# Altium integrated library Analog Devices Power Management Multi-Output Regulators.IntLib: 30 symbols (part 2 of 3)
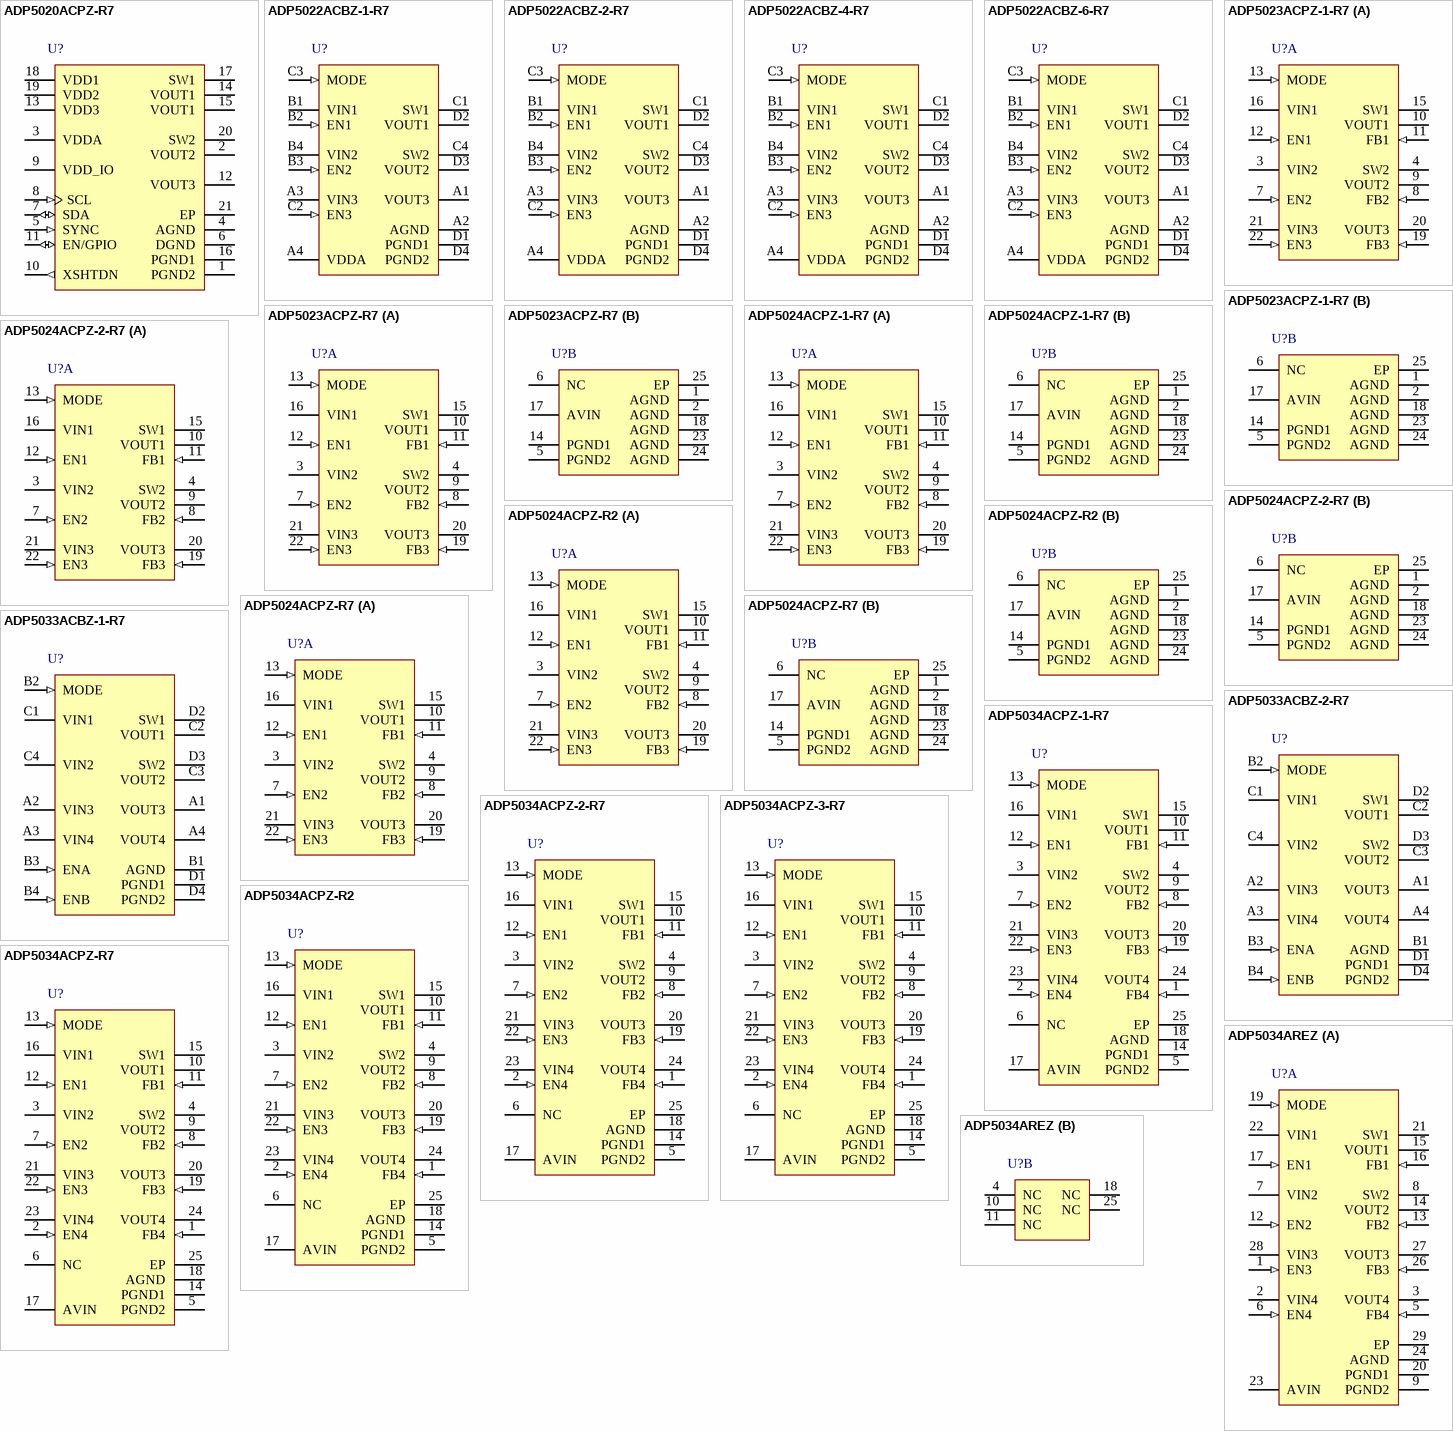
[diagram p2: symbols ADP5020ACPZ-R7 to ADP5034AREZ]

## ADP5034ACPZ-2-R7
designator U?
Dual 3 MHz, 1200 mA Buck Regulator with Two 300 mA LDOs, 2.3 to 5.5 V Vin, Adjustable Vout, Industrial, 24-pin QFN (CP-24-10), Reel; Manufacturer: Analog Devices; PartNumber: ADP5034ACPZ-2-R7; Output Current (mA): 300; Number of Outputs: 4; Vin (max) (V): 5.5; Vin (min) (V): 2.3; DatasheetVersion: Rev. C; PackageVersion: 0; PackageReference: CP-24-10; PackageDescription: 24-Pin Lead Frame Chip Scale Package, Body 4 x 4 mm, Pitch 0.5 mm; Supplier 1: Digi-Key; Supplier Part Number 1: ADP5034ACPZ-2-R7-ND; Supplier 2: Farnell; Supplier Part Number 2: 2081051; Supplier 3: Newark; Supplier Part Number 3: 92T3195; Supplier 4: Newark; Supplier Part Number 4: 76T1767; Supplier 5: Mouser; Supplier Part Number 5: 584-ADP5034ACPZ-2-R7; Packing: Reel; Mounting Technology: Surface Mount; Code_JEDEC: MO-220-WGGD-8; ComponentLink1Description: Manufacturer URL; ComponentLink1URL: http://www.analog.com/en/index.html; ComponentLink2Description: Datasheet; ComponentLink2URL: http://www.analog.com/static/imported-files/data_sheets/ADP5034.pdf; ComponentLink3Description: Package Specification; ComponentLink3URL: http://www.analog.com/static/imported-files/packages/PKG_PDF/LFCSP(CP)/CP_24_10.pdf; ComponentLink4Description: URL Link1; ComponentLink4URL: Product URL:http://www.analog.com/en/ADP5034/productSearch.html
footprint ADI-CP-24-10_N (QFN, 24-Leads, Body 4x4mm, Pitch 0.5mm, Thermal Pad 2.1x2.1mm, IPC Medium Density)
footprint ADI-CP-24-10_L (QFN, 24-Leads, Body 4x4mm, Pitch 0.5mm, Thermal Pad 2.1x2.1mm, IPC High Density)
footprint ADI-CP-24-10_M (QFN, 24-Leads, Body 4x4mm, Pitch 0.5mm, Thermal Pad 2.1x2.1mm, IPC Low Density)
pins: 1 FB4 (in) "LDO2 Feedback Input. For device models with a adjustable output voltage, connect this pin to the middle of the LDO2 resistor divider. For device models with a factory programmed output voltage, connect FB4 to the top of the (See Datasheet)", 2 EN4 (in) "LDO2 Enable Pin. High level turns on this regulator, and low level turns it off.", 3 VIN2 (power) "BUCK2 Input Supply (2.3 V to 5.5 V). Connect VIN2 to VIN1 and AVIN.", 4 SW2 (power) "BUCK2 Switching Node.", 5 PGND2 (power) "Dedicated Power Ground for BUCK2.", 6 NC "No Connect. Leave this pin unconnected.", 7 EN2 (in) "BUCK2 Enable Pin. High level turns on this regulator, and low level turns it off.", 8 FB2 (in) "BUCK2 Feedback Input. For device models with an adjustable output voltage, connect this pin to the middle of the BUCK2 resistor divider. For device models with a fixed output voltage, leave this pin unconnected.", 9 VOUT2 "BUCK2 Output Voltage Sensing Input. Connect VOUT2 to the top of the capacitor on VOUT2.", 10 VOUT1 "BUCK1 Output Voltage Sensing Input. Connect VOUT1 to the top of the capacitor on VOUT1.", 11 FB1 (in) "BUCK1 Feedback Input. For device models with an adjustable output voltage, connect this pin to the middle of the BUCK1 resistor divider. For device models with a fixed output voltage, leave this pin unconnected.", 12 EN1 (in) "BUCK1 Enable Pin. High level turns on this regulator, and low level turns it off.", 13 MODE (in) "BUCK1/BUCK2 Operating Mode. MODE = high: forced PWM operation. MODE = low: auto PWM/PSM operation.", 14 PGND1 (power) "Dedicated Power Ground for BUCK1.", 15 SW1 (power) "BUCK1 Switching Node.", 16 VIN1 (power) "BUCK1 Input Supply (2.3 V to 5.5 V). Connect VIN1 to VIN2 and AVIN.", 17 AVIN (power) "Analog Input Supply (2.3 V to 5.5 V). Connect AVIN to VIN1 and VIN2.", 18 AGND (power) "Analog Ground.", 19 FB3 (in) "LDO1 Feedback Input. For device models with an adjustable output voltage, connect this pin to the middle of the LDO1 resistor divider. For device models with a factory programmed output voltage, connect FB3 to the top of the (See Datasheet)", 20 VOUT3 (power) "LDO1 Output Voltage.", 21 VIN3 (power) "LDO1 Input Supply (1.7 V to 5.5 V).", 22 EN3 (in) "LDO1 Enable Pin. High level turns on this regulator, and low level turns it off.", 23 VIN4 (power) "LDO2 Input Supply (1.7 V to 5.5 V).", 24 VOUT4 (power) "LDO2 Output Voltage.", 25 EP (power) "Exposed Pad. It is recommended that the exposed pad be soldered to the ground plane."

## ADP5034ACPZ-3-R7
designator U?
Dual 3 MHz, 1200 mA Buck Regulator with Two 300 mA LDOs, 2.3 to 5.5 V Vin, Industrial, 24-pin QFN (CP-24-10), Reel; Manufacturer: Analog Devices; PartNumber: ADP5034ACPZ-3-R7; Output Current (mA): 300; Number of Outputs: 4; Vin (max) (V): 5.5; Vin (min) (V): 2.3; DatasheetVersion: Rev. C; PackageVersion: 0; PackageReference: CP-24-10; PackageDescription: 24-Pin Lead Frame Chip Scale Package, Body 4 x 4 mm, Pitch 0.5 mm; Supplier 1: Digi-Key; Supplier Part Number 1: ADP5034ACPZ-3-R7-ND; Supplier 2: Newark; Supplier Part Number 2: 66W8493; Supplier 3: Mouser; Supplier Part Number 3: 584-ADP5034ACPZ-3-R7; Packing: Reel; Mounting Technology: Surface Mount; Code_JEDEC: MO-220-WGGD-8; ComponentLink1Description: Manufacturer URL; ComponentLink1URL: http://www.analog.com/en/index.html; ComponentLink2Description: Datasheet; ComponentLink2URL: http://www.analog.com/static/imported-files/data_sheets/ADP5034.pdf; ComponentLink3Description: Package Specification; ComponentLink3URL: http://www.analog.com/static/imported-files/packages/PKG_PDF/LFCSP(CP)/CP_24_10.pdf; ComponentLink4Description: URL Link1; ComponentLink4URL: Product URL:http://www.analog.com/en/ADP5034/productSearch.html
footprint ADI-CP-24-10_N (QFN, 24-Leads, Body 4x4mm, Pitch 0.5mm, Thermal Pad 2.1x2.1mm, IPC Medium Density)
footprint ADI-CP-24-10_L (QFN, 24-Leads, Body 4x4mm, Pitch 0.5mm, Thermal Pad 2.1x2.1mm, IPC High Density)
footprint ADI-CP-24-10_M (QFN, 24-Leads, Body 4x4mm, Pitch 0.5mm, Thermal Pad 2.1x2.1mm, IPC Low Density)
pins: 1 FB4 (in) "LDO2 Feedback Input. For device models with a adjustable output voltage, connect this pin to the middle of the LDO2 resistor divider. For device models with a factory programmed output voltage, connect FB4 to the top of the (See Datasheet)", 2 EN4 (in) "LDO2 Enable Pin. High level turns on this regulator, and low level turns it off.", 3 VIN2 (power) "BUCK2 Input Supply (2.3 V to 5.5 V). Connect VIN2 to VIN1 and AVIN.", 4 SW2 (power) "BUCK2 Switching Node.", 5 PGND2 (power) "Dedicated Power Ground for BUCK2.", 6 NC "No Connect. Leave this pin unconnected.", 7 EN2 (in) "BUCK2 Enable Pin. High level turns on this regulator, and low level turns it off.", 8 FB2 (in) "BUCK2 Feedback Input. For device models with an adjustable output voltage, connect this pin to the middle of the BUCK2 resistor divider. For device models with a fixed output voltage, leave this pin unconnected.", 9 VOUT2 "BUCK2 Output Voltage Sensing Input. Connect VOUT2 to the top of the capacitor on VOUT2.", 10 VOUT1 "BUCK1 Output Voltage Sensing Input. Connect VOUT1 to the top of the capacitor on VOUT1.", 11 FB1 (in) "BUCK1 Feedback Input. For device models with an adjustable output voltage, connect this pin to the middle of the BUCK1 resistor divider. For device models with a fixed output voltage, leave this pin unconnected.", 12 EN1 (in) "BUCK1 Enable Pin. High level turns on this regulator, and low level turns it off.", 13 MODE (in) "BUCK1/BUCK2 Operating Mode. MODE = high: forced PWM operation. MODE = low: auto PWM/PSM operation.", 14 PGND1 (power) "Dedicated Power Ground for BUCK1.", 15 SW1 (power) "BUCK1 Switching Node.", 16 VIN1 (power) "BUCK1 Input Supply (2.3 V to 5.5 V). Connect VIN1 to VIN2 and AVIN.", 17 AVIN (power) "Analog Input Supply (2.3 V to 5.5 V). Connect AVIN to VIN1 and VIN2.", 18 AGND (power) "Analog Ground.", 19 FB3 (in) "LDO1 Feedback Input. For device models with an adjustable output voltage, connect this pin to the middle of the LDO1 resistor divider. For device models with a factory programmed output voltage, connect FB3 to the top of the (See Datasheet)", 20 VOUT3 (power) "LDO1 Output Voltage.", 21 VIN3 (power) "LDO1 Input Supply (1.7 V to 5.5 V).", 22 EN3 (in) "LDO1 Enable Pin. High level turns on this regulator, and low level turns it off.", 23 VIN4 (power) "LDO2 Input Supply (1.7 V to 5.5 V).", 24 VOUT4 (power) "LDO2 Output Voltage.", 25 EP (power) "Exposed Pad. It is recommended that the exposed pad be soldered to the ground plane."

## ADP5034ACPZ-R2
designator U?
Dual 3 MHz, 1200 mA Buck Regulator with Two 300 mA LDOs, 2.3 to 5.5 V Vin, Adjustable Vout, Industrial, 24-pin QFN (CP-24-10), Reel; Manufacturer: Analog Devices; PartNumber: ADP5034ACPZ-R2; Output Current (mA): 300; Number of Outputs: 4; Vin (max) (V): 5.5; Vin (min) (V): 2.3; DatasheetVersion: Rev. C; PackageVersion: 0; PackageReference: CP-24-10; PackageDescription: 24-Pin Lead Frame Chip Scale Package, Body 4 x 4 mm, Pitch 0.5 mm; Supplier 1: Digi-Key; Supplier Part Number 1: ADP5034ACPZ-R2TR-ND; Supplier 2: Digi-Key; Supplier Part Number 2: ADP5034ACPZ-R2CT-ND; Supplier 3: Digi-Key; Supplier Part Number 3: ADP5034ACPZ-R2DKR-ND; Supplier 4: Newark; Supplier Part Number 4: 47W4415; Supplier 5: Mouser; Supplier Part Number 5: 584-ADP5034ACPZ-R2; Packing: Reel; Mounting Technology: Surface Mount; Code_JEDEC: MO-220-WGGD-8; ComponentLink1Description: Manufacturer URL; ComponentLink1URL: http://www.analog.com/en/index.html; ComponentLink2Description: Datasheet; ComponentLink2URL: http://www.analog.com/static/imported-files/data_sheets/ADP5034.pdf; ComponentLink3Description: Package Specification; ComponentLink3URL: http://www.analog.com/static/imported-files/packages/PKG_PDF/LFCSP(CP)/CP_24_10.pdf; ComponentLink4Description: URL Link1; ComponentLink4URL: Product URL:http://www.analog.com/en/ADP5034/productSearch.html
footprint ADI-CP-24-10_N (QFN, 24-Leads, Body 4x4mm, Pitch 0.5mm, Thermal Pad 2.1x2.1mm, IPC Medium Density)
footprint ADI-CP-24-10_L (QFN, 24-Leads, Body 4x4mm, Pitch 0.5mm, Thermal Pad 2.1x2.1mm, IPC High Density)
footprint ADI-CP-24-10_M (QFN, 24-Leads, Body 4x4mm, Pitch 0.5mm, Thermal Pad 2.1x2.1mm, IPC Low Density)
pins: 1 FB4 (in) "LDO2 Feedback Input. For device models with a adjustable output voltage, connect this pin to the middle of the LDO2 resistor divider. For device models with a factory programmed output voltage, connect FB4 to the top of the (See Datasheet)", 2 EN4 (in) "LDO2 Enable Pin. High level turns on this regulator, and low level turns it off.", 3 VIN2 (power) "BUCK2 Input Supply (2.3 V to 5.5 V). Connect VIN2 to VIN1 and AVIN.", 4 SW2 (power) "BUCK2 Switching Node.", 5 PGND2 (power) "Dedicated Power Ground for BUCK2.", 6 NC "No Connect. Leave this pin unconnected.", 7 EN2 (in) "BUCK2 Enable Pin. High level turns on this regulator, and low level turns it off.", 8 FB2 (in) "BUCK2 Feedback Input. For device models with an adjustable output voltage, connect this pin to the middle of the BUCK2 resistor divider. For device models with a fixed output voltage, leave this pin unconnected.", 9 VOUT2 "BUCK2 Output Voltage Sensing Input. Connect VOUT2 to the top of the capacitor on VOUT2.", 10 VOUT1 "BUCK1 Output Voltage Sensing Input. Connect VOUT1 to the top of the capacitor on VOUT1.", 11 FB1 (in) "BUCK1 Feedback Input. For device models with an adjustable output voltage, connect this pin to the middle of the BUCK1 resistor divider. For device models with a fixed output voltage, leave this pin unconnected.", 12 EN1 (in) "BUCK1 Enable Pin. High level turns on this regulator, and low level turns it off.", 13 MODE (in) "BUCK1/BUCK2 Operating Mode. MODE = high: forced PWM operation. MODE = low: auto PWM/PSM operation.", 14 PGND1 (power) "Dedicated Power Ground for BUCK1.", 15 SW1 (power) "BUCK1 Switching Node.", 16 VIN1 (power) "BUCK1 Input Supply (2.3 V to 5.5 V). Connect VIN1 to VIN2 and AVIN.", 17 AVIN (power) "Analog Input Supply (2.3 V to 5.5 V). Connect AVIN to VIN1 and VIN2.", 18 AGND (power) "Analog Ground.", 19 FB3 (in) "LDO1 Feedback Input. For device models with an adjustable output voltage, connect this pin to the middle of the LDO1 resistor divider. For device models with a factory programmed output voltage, connect FB3 to the top of the (See Datasheet)", 20 VOUT3 (power) "LDO1 Output Voltage.", 21 VIN3 (power) "LDO1 Input Supply (1.7 V to 5.5 V).", 22 EN3 (in) "LDO1 Enable Pin. High level turns on this regulator, and low level turns it off.", 23 VIN4 (power) "LDO2 Input Supply (1.7 V to 5.5 V).", 24 VOUT4 (power) "LDO2 Output Voltage.", 25 EP (power) "Exposed Pad. It is recommended that the exposed pad be soldered to the ground plane."

## ADP5034ACPZ-R7
designator U?
Dual 3 MHz, 1200 mA Buck Regulator with Two 300 mA LDOs, 2.3 to 5.5 V Vin, Adjustable Vout, Industrial, 24-pin QFN (CP-24-10), Reel; Manufacturer: Analog Devices; PartNumber: ADP5034ACPZ-R7; Output Current (mA): 300; Number of Outputs: 4; Vin (max) (V): 5.5; Vin (min) (V): 2.3; DatasheetVersion: Rev. C; PackageVersion: 0; PackageReference: CP-24-10; PackageDescription: 24-Pin Lead Frame Chip Scale Package, Body 4 x 4 mm, Pitch 0.5 mm; Supplier 1: Digi-Key; Supplier Part Number 1: ADP5034ACPZ-R7-ND; Supplier 2: Farnell; Supplier Part Number 2: 2081053; Supplier 3: Newark; Supplier Part Number 3: 94T9415; Supplier 4: Mouser; Supplier Part Number 4: 584-ADP5034ACPZ-R7; Packing: Reel; Mounting Technology: Surface Mount; Code_JEDEC: MO-220-WGGD-8; ComponentLink1Description: Manufacturer URL; ComponentLink1URL: http://www.analog.com/en/index.html; ComponentLink2Description: Datasheet; ComponentLink2URL: http://www.analog.com/static/imported-files/data_sheets/ADP5034.pdf; ComponentLink3Description: Package Specification; ComponentLink3URL: http://www.analog.com/static/imported-files/packages/PKG_PDF/LFCSP(CP)/CP_24_10.pdf; ComponentLink4Description: URL Link1; ComponentLink4URL: Product URL:http://www.analog.com/en/ADP5034/productSearch.html
footprint ADI-CP-24-10_N (QFN, 24-Leads, Body 4x4mm, Pitch 0.5mm, Thermal Pad 2.1x2.1mm, IPC Medium Density)
footprint ADI-CP-24-10_L (QFN, 24-Leads, Body 4x4mm, Pitch 0.5mm, Thermal Pad 2.1x2.1mm, IPC High Density)
footprint ADI-CP-24-10_M (QFN, 24-Leads, Body 4x4mm, Pitch 0.5mm, Thermal Pad 2.1x2.1mm, IPC Low Density)
pins: 1 FB4 (in) "LDO2 Feedback Input. For device models with a adjustable output voltage, connect this pin to the middle of the LDO2 resistor divider. For device models with a factory programmed output voltage, connect FB4 to the top of the (See Datasheet)", 2 EN4 (in) "LDO2 Enable Pin. High level turns on this regulator, and low level turns it off.", 3 VIN2 (power) "BUCK2 Input Supply (2.3 V to 5.5 V). Connect VIN2 to VIN1 and AVIN.", 4 SW2 (power) "BUCK2 Switching Node.", 5 PGND2 (power) "Dedicated Power Ground for BUCK2.", 6 NC "No Connect. Leave this pin unconnected.", 7 EN2 (in) "BUCK2 Enable Pin. High level turns on this regulator, and low level turns it off.", 8 FB2 (in) "BUCK2 Feedback Input. For device models with an adjustable output voltage, connect this pin to the middle of the BUCK2 resistor divider. For device models with a fixed output voltage, leave this pin unconnected.", 9 VOUT2 "BUCK2 Output Voltage Sensing Input. Connect VOUT2 to the top of the capacitor on VOUT2.", 10 VOUT1 "BUCK1 Output Voltage Sensing Input. Connect VOUT1 to the top of the capacitor on VOUT1.", 11 FB1 (in) "BUCK1 Feedback Input. For device models with an adjustable output voltage, connect this pin to the middle of the BUCK1 resistor divider. For device models with a fixed output voltage, leave this pin unconnected.", 12 EN1 (in) "BUCK1 Enable Pin. High level turns on this regulator, and low level turns it off.", 13 MODE (in) "BUCK1/BUCK2 Operating Mode. MODE = high: forced PWM operation. MODE = low: auto PWM/PSM operation.", 14 PGND1 (power) "Dedicated Power Ground for BUCK1.", 15 SW1 (power) "BUCK1 Switching Node.", 16 VIN1 (power) "BUCK1 Input Supply (2.3 V to 5.5 V). Connect VIN1 to VIN2 and AVIN.", 17 AVIN (power) "Analog Input Supply (2.3 V to 5.5 V). Connect AVIN to VIN1 and VIN2.", 18 AGND (power) "Analog Ground.", 19 FB3 (in) "LDO1 Feedback Input. For device models with an adjustable output voltage, connect this pin to the middle of the LDO1 resistor divider. For device models with a factory programmed output voltage, connect FB3 to the top of the (See Datasheet)", 20 VOUT3 (power) "LDO1 Output Voltage.", 21 VIN3 (power) "LDO1 Input Supply (1.7 V to 5.5 V).", 22 EN3 (in) "LDO1 Enable Pin. High level turns on this regulator, and low level turns it off.", 23 VIN4 (power) "LDO2 Input Supply (1.7 V to 5.5 V).", 24 VOUT4 (power) "LDO2 Output Voltage.", 25 EP (power) "Exposed Pad. It is recommended that the exposed pad be soldered to the ground plane."

## ADP5034AREZ
designator U?
Dual 3 MHz, 1200 mA Buck Regulator with Two 300 mA LDOs, 2.3 to 5.5 V Vin, Adjustable Vout, Industrial, 28-pin SOP (RE-28-1), Tube; Manufacturer: Analog Devices; PartNumber: ADP5034AREZ; Output Current (mA): 300; Number of Outputs: 4; Vin (max) (V): 5.5; Vin (min) (V): 2.3; DatasheetVersion: Rev. C; PackageVersion: 02-23-2012-A, 03/2012; PackageReference: RE-28-1; PackageDescription: 28-Pin Thin Shrink Small Outline Package, Body 9.7 x 4.4 mm, Pitch 0.65 mm; Supplier 1: Digi-Key; Supplier Part Number 1: ADP5034AREZ-ND; Supplier 2: Newark; Supplier Part Number 2: 43W5490; Supplier 3: Mouser; Supplier Part Number 3: 584-ADP5034AREZ; Packing: Tube; Mounting Technology: Surface Mount; ComponentLink1Description: Manufacturer URL; ComponentLink1URL: http://www.analog.com/en/index.html; ComponentLink2Description: Datasheet; ComponentLink2URL: http://www.analog.com/static/imported-files/data_sheets/ADP5034.pdf; ComponentLink3Description: Package Specification; ComponentLink3URL: http://www.analog.com/static/imported-files/data_sheets/AD8016.pdf; ComponentLink4Description: URL Link1; ComponentLink4URL: Product URL:http://www.analog.com/en/ADP5034/productSearch.html
footprint ADI-RE-28-1_N (SOP, 28-Leads, Body 9.7x4.4mm, Pitch 0.65mm, Thermal Pad 3x3.5mm, IPC Medium Density)
footprint ADI-RE-28-1_L (SOP, 28-Leads, Body 9.7x4.4mm, Pitch 0.65mm, Thermal Pad 3x3.5mm, IPC High Density)
footprint ADI-RE-28-1_M (SOP, 28-Leads, Body 9.7x4.4mm, Pitch 0.65mm, Thermal Pad 3x3.5mm, IPC Low Density)
part A pins: 1 EN3 (in) "LDO1 Enable Pin. High level turns on this regulator, and low level turns it off.", 2 VIN4 (power) "LDO2 Input Supply (1.7 V to 5.5 V).", 3 VOUT4 (power) "LDO2 Output Voltage.", 5 FB4 (in) "LDO2 Feedback Input. For device models with a adjustable output voltage, connect this pin to the middle of the LDO2 resistor divider. For device models with a factory programmed output voltage, connect FB4 to the top of the (See Datasheet)", 6 EN4 (in) "LDO2 Enable Pin. High level turns on this regulator, and low level turns it off.", 7 VIN2 (power) "BUCK2 Input Supply (2.3 V to 5.5 V). Connect VIN2 to VIN1 and AVIN.", 8 SW2 (power) "BUCK2 Switching Node.", 9 PGND2 (power) "Dedicated Power Ground for BUCK2.", 12 EN2 (in) "BUCK2 Enable Pin. High level turns on this regulator, and low level turns it off.", 13 FB2 (in) "BUCK2 Feedback Input. For device models with an adjustable output voltage, connect this pin to the middle of the BUCK2 resistor divider. For device models with a fixed output voltage, leave this pin unconnected.", 14 VOUT2 "BUCK2 Output Voltage Sensing Input. Connect VOUT2 to the top of the capacitor on VOUT2.", 15 VOUT1 "BUCK1 Output Voltage Sensing Input. Connect VOUT1 to the top of the capacitor on VOUT1.", 16 FB1 (in) "BUCK1 Feedback Input. For device models with an adjustable output voltage, connect this pin to the middle of the BUCK1 resistor divider. For device models with a fixed output voltage, leave this pin unconnected.", 17 EN1 (in) "BUCK1 Enable Pin. High level turns on this regulator, and low level turns it off.", 19 MODE (in) "BUCK1/BUCK2 Operating Mode. MODE = high: forced PWM operation. MODE = low: auto PWM/PSM operation.", 20 PGND1 (power) "Dedicated Power Ground for BUCK1.", 21 SW1 (power) "BUCK1 Switching Node.", 22 VIN1 (power) "BUCK1 Input Supply (2.3 V to 5.5 V). Connect VIN1 to VIN2 and AVIN.", 23 AVIN (power) "Analog Input Supply (2.3 V to 5.5 V). Connect AVIN to VIN1 and VIN2.", 24 AGND (power) "Analog Ground.", 26 FB3 (in) "LDO1 Feedback Input. For device models with an adjustable output voltage, connect this pin to the middle of the LDO1 resistor divider. For device models with a factory programmed output voltage, connect FB3 to the top of the (See Datasheet)", 27 VOUT3 (power) "LDO1 Output Voltage.", 28 VIN3 (power) "LDO1 Input Supply (1.7 V to 5.5 V).", 29 EP (power) "Exposed Pad. It is recommended that the exposed pad be soldered to the ground plane."
part B pins: 4 NC "No Connect. Leave this pin unconnected.", 10 NC "No Connect. Leave this pin unconnected.", 11 NC "No Connect. Leave this pin unconnected.", 18 NC "No Connect. Leave this pin unconnected.", 25 NC "No Connect. Leave this pin unconnected."

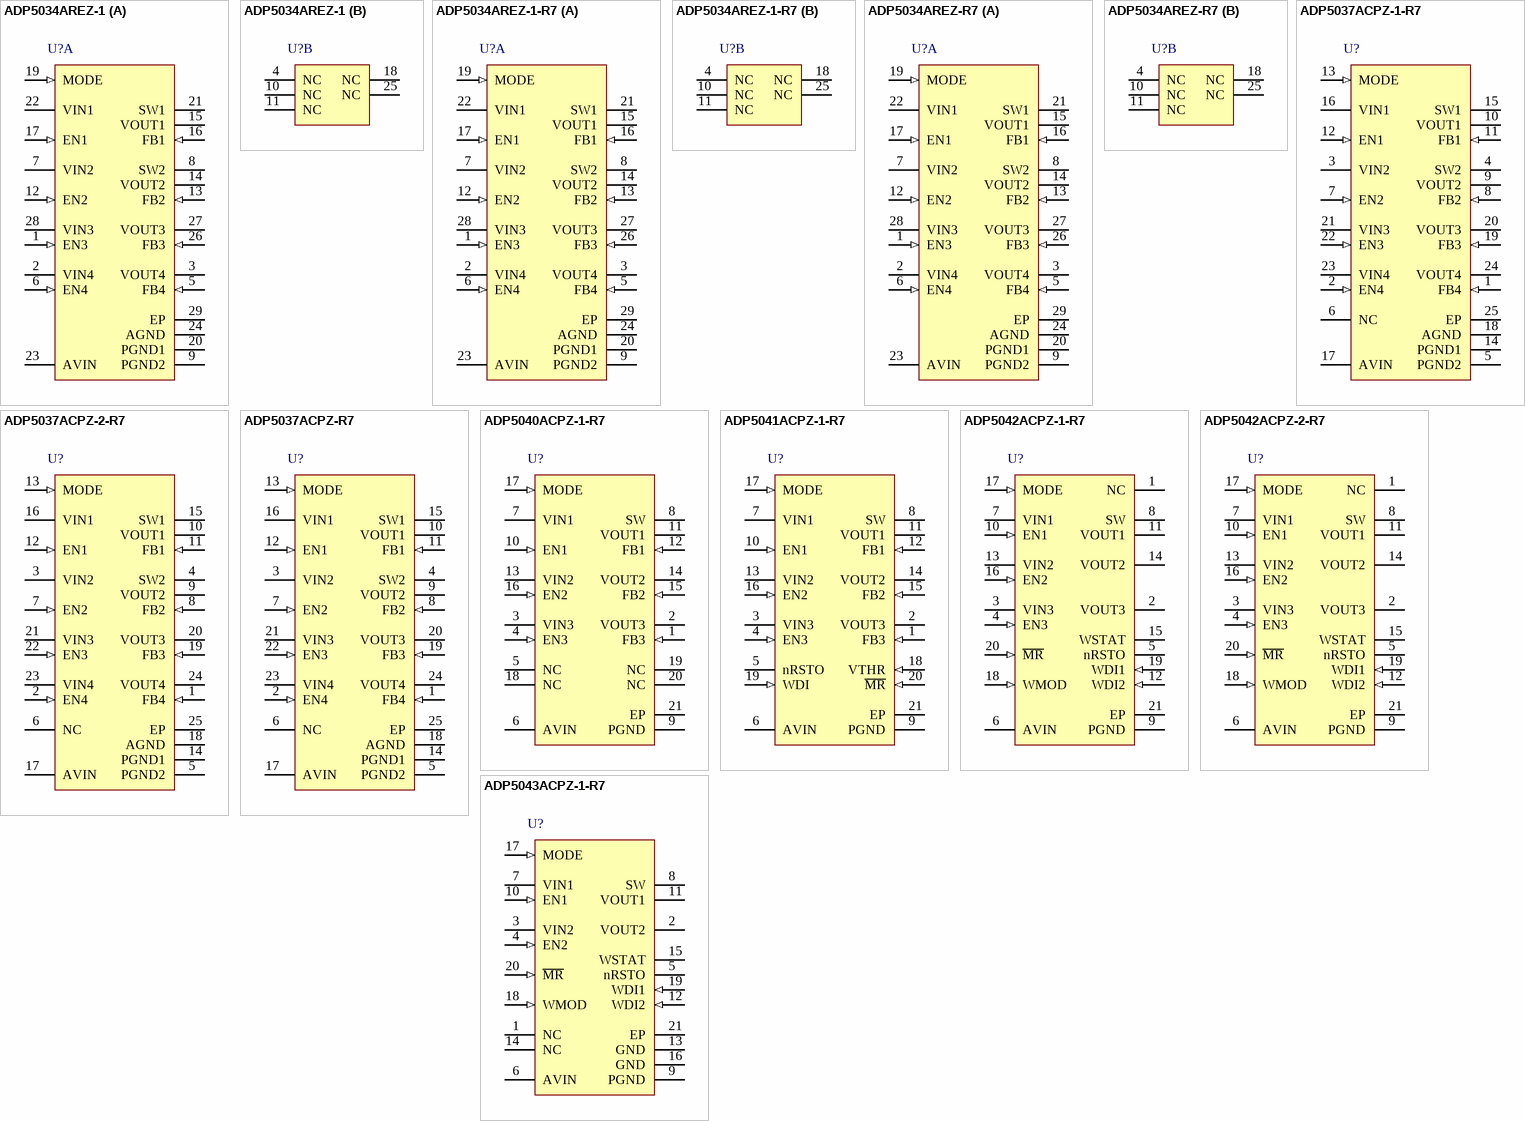
[diagram p1: symbols ADP5034AREZ-1 to ADP5043ACPZ-1-R7]

## ADP5034AREZ-1
designator U?
Dual 3 MHz, 1200 mA Buck Regulator with Two 300 mA LDOs, 2.3 to 5.5 V Vin, Adjustable Vout, Industrial, 28-pin SOP (RE-28-1), Tube; Manufacturer: Analog Devices; PartNumber: ADP5034AREZ-1; Output Current (mA): 300; Number of Outputs: 4; Vin (max) (V): 5.5; Vin (min) (V): 2.3; DatasheetVersion: Rev. C; PackageVersion: 02-23-2012-A, 03/2012; PackageReference: RE-28-1; PackageDescription: 28-Pin Thin Shrink Small Outline Package, Body 9.7 x 4.4 mm, Pitch 0.65 mm; Supplier 1: Digi-Key; Supplier Part Number 1: ADP5034AREZ-1-ND; Supplier 2: Newark; Supplier Part Number 2: 66W8494; Supplier 3: Mouser; Supplier Part Number 3: 584-ADP5034AREZ-1; Packing: Tube; Mounting Technology: Surface Mount; ComponentLink1Description: Manufacturer URL; ComponentLink1URL: http://www.analog.com/en/index.html; ComponentLink2Description: Datasheet; ComponentLink2URL: http://www.analog.com/static/imported-files/data_sheets/ADP5034.pdf; ComponentLink3Description: Package Specification; ComponentLink3URL: http://www.analog.com/static/imported-files/data_sheets/AD8016.pdf; ComponentLink4Description: URL Link1; ComponentLink4URL: Product URL:http://www.analog.com/en/ADP5034/productSearch.html
footprint ADI-RE-28-1_N (SOP, 28-Leads, Body 9.7x4.4mm, Pitch 0.65mm, Thermal Pad 3x3.5mm, IPC Medium Density)
footprint ADI-RE-28-1_L (SOP, 28-Leads, Body 9.7x4.4mm, Pitch 0.65mm, Thermal Pad 3x3.5mm, IPC High Density)
footprint ADI-RE-28-1_M (SOP, 28-Leads, Body 9.7x4.4mm, Pitch 0.65mm, Thermal Pad 3x3.5mm, IPC Low Density)
part A pins: 1 EN3 (in) "LDO1 Enable Pin. High level turns on this regulator, and low level turns it off.", 2 VIN4 (power) "LDO2 Input Supply (1.7 V to 5.5 V).", 3 VOUT4 (power) "LDO2 Output Voltage.", 5 FB4 (in) "LDO2 Feedback Input. For device models with a adjustable output voltage, connect this pin to the middle of the LDO2 resistor divider. For device models with a factory programmed output voltage, connect FB4 to the top of the (See Datasheet)", 6 EN4 (in) "LDO2 Enable Pin. High level turns on this regulator, and low level turns it off.", 7 VIN2 (power) "BUCK2 Input Supply (2.3 V to 5.5 V). Connect VIN2 to VIN1 and AVIN.", 8 SW2 (power) "BUCK2 Switching Node.", 9 PGND2 (power) "Dedicated Power Ground for BUCK2.", 12 EN2 (in) "BUCK2 Enable Pin. High level turns on this regulator, and low level turns it off.", 13 FB2 (in) "BUCK2 Feedback Input. For device models with an adjustable output voltage, connect this pin to the middle of the BUCK2 resistor divider. For device models with a fixed output voltage, leave this pin unconnected.", 14 VOUT2 "BUCK2 Output Voltage Sensing Input. Connect VOUT2 to the top of the capacitor on VOUT2.", 15 VOUT1 "BUCK1 Output Voltage Sensing Input. Connect VOUT1 to the top of the capacitor on VOUT1.", 16 FB1 (in) "BUCK1 Feedback Input. For device models with an adjustable output voltage, connect this pin to the middle of the BUCK1 resistor divider. For device models with a fixed output voltage, leave this pin unconnected.", 17 EN1 (in) "BUCK1 Enable Pin. High level turns on this regulator, and low level turns it off.", 19 MODE (in) "BUCK1/BUCK2 Operating Mode. MODE = high: forced PWM operation. MODE = low: auto PWM/PSM operation.", 20 PGND1 (power) "Dedicated Power Ground for BUCK1.", 21 SW1 (power) "BUCK1 Switching Node.", 22 VIN1 (power) "BUCK1 Input Supply (2.3 V to 5.5 V). Connect VIN1 to VIN2 and AVIN.", 23 AVIN (power) "Analog Input Supply (2.3 V to 5.5 V). Connect AVIN to VIN1 and VIN2.", 24 AGND (power) "Analog Ground.", 26 FB3 (in) "LDO1 Feedback Input. For device models with an adjustable output voltage, connect this pin to the middle of the LDO1 resistor divider. For device models with a factory programmed output voltage, connect FB3 to the top of the (See Datasheet)", 27 VOUT3 (power) "LDO1 Output Voltage.", 28 VIN3 (power) "LDO1 Input Supply (1.7 V to 5.5 V).", 29 EP (power) "Exposed Pad. It is recommended that the exposed pad be soldered to the ground plane."
part B pins: 4 NC "No Connect. Leave this pin unconnected.", 10 NC "No Connect. Leave this pin unconnected.", 11 NC "No Connect. Leave this pin unconnected.", 18 NC "No Connect. Leave this pin unconnected.", 25 NC "No Connect. Leave this pin unconnected."

## ADP5034AREZ-1-R7
designator U?
Dual 3 MHz, 1200 mA Buck Regulator with Two 300 mA LDOs, 2.3 to 5.5 V Vin, Adjustable Vout, Industrial, 28-pin SOP (RE-28-1), Reel; Manufacturer: Analog Devices; PartNumber: ADP5034AREZ-1-R7; Output Current (mA): 300; Number of Outputs: 4; Vin (max) (V): 5.5; Vin (min) (V): 2.3; DatasheetVersion: Rev. C; PackageVersion: 02-23-2012-A, 03/2012; PackageReference: RE-28-1; PackageDescription: 28-Pin Thin Shrink Small Outline Package, Body 9.7 x 4.4 mm, Pitch 0.65 mm; Supplier 1: Digi-Key; Supplier Part Number 1: ADP5034AREZ-1-R7-ND; Supplier 2: Newark; Supplier Part Number 2: 66W8495; Supplier 3: Mouser; Supplier Part Number 3: 584-ADP5034AREZ-1-R7; Packing: Reel; Mounting Technology: Surface Mount; ComponentLink1Description: Manufacturer URL; ComponentLink1URL: http://www.analog.com/en/index.html; ComponentLink2Description: Datasheet; ComponentLink2URL: http://www.analog.com/static/imported-files/data_sheets/ADP5034.pdf; ComponentLink3Description: Package Specification; ComponentLink3URL: http://www.analog.com/static/imported-files/data_sheets/AD8016.pdf; ComponentLink4Description: URL Link1; ComponentLink4URL: Product URL:http://www.analog.com/en/ADP5034/productSearch.html
footprint ADI-RE-28-1_N (SOP, 28-Leads, Body 9.7x4.4mm, Pitch 0.65mm, Thermal Pad 3x3.5mm, IPC Medium Density)
footprint ADI-RE-28-1_L (SOP, 28-Leads, Body 9.7x4.4mm, Pitch 0.65mm, Thermal Pad 3x3.5mm, IPC High Density)
footprint ADI-RE-28-1_M (SOP, 28-Leads, Body 9.7x4.4mm, Pitch 0.65mm, Thermal Pad 3x3.5mm, IPC Low Density)
part A pins: 1 EN3 (in) "LDO1 Enable Pin. High level turns on this regulator, and low level turns it off.", 2 VIN4 (power) "LDO2 Input Supply (1.7 V to 5.5 V).", 3 VOUT4 (power) "LDO2 Output Voltage.", 5 FB4 (in) "LDO2 Feedback Input. For device models with a adjustable output voltage, connect this pin to the middle of the LDO2 resistor divider. For device models with a factory programmed output voltage, connect FB4 to the top of the (See Datasheet)", 6 EN4 (in) "LDO2 Enable Pin. High level turns on this regulator, and low level turns it off.", 7 VIN2 (power) "BUCK2 Input Supply (2.3 V to 5.5 V). Connect VIN2 to VIN1 and AVIN.", 8 SW2 (power) "BUCK2 Switching Node.", 9 PGND2 (power) "Dedicated Power Ground for BUCK2.", 12 EN2 (in) "BUCK2 Enable Pin. High level turns on this regulator, and low level turns it off.", 13 FB2 (in) "BUCK2 Feedback Input. For device models with an adjustable output voltage, connect this pin to the middle of the BUCK2 resistor divider. For device models with a fixed output voltage, leave this pin unconnected.", 14 VOUT2 "BUCK2 Output Voltage Sensing Input. Connect VOUT2 to the top of the capacitor on VOUT2.", 15 VOUT1 "BUCK1 Output Voltage Sensing Input. Connect VOUT1 to the top of the capacitor on VOUT1.", 16 FB1 (in) "BUCK1 Feedback Input. For device models with an adjustable output voltage, connect this pin to the middle of the BUCK1 resistor divider. For device models with a fixed output voltage, leave this pin unconnected.", 17 EN1 (in) "BUCK1 Enable Pin. High level turns on this regulator, and low level turns it off.", 19 MODE (in) "BUCK1/BUCK2 Operating Mode. MODE = high: forced PWM operation. MODE = low: auto PWM/PSM operation.", 20 PGND1 (power) "Dedicated Power Ground for BUCK1.", 21 SW1 (power) "BUCK1 Switching Node.", 22 VIN1 (power) "BUCK1 Input Supply (2.3 V to 5.5 V). Connect VIN1 to VIN2 and AVIN.", 23 AVIN (power) "Analog Input Supply (2.3 V to 5.5 V). Connect AVIN to VIN1 and VIN2.", 24 AGND (power) "Analog Ground.", 26 FB3 (in) "LDO1 Feedback Input. For device models with an adjustable output voltage, connect this pin to the middle of the LDO1 resistor divider. For device models with a factory programmed output voltage, connect FB3 to the top of the (See Datasheet)", 27 VOUT3 (power) "LDO1 Output Voltage.", 28 VIN3 (power) "LDO1 Input Supply (1.7 V to 5.5 V).", 29 EP (power) "Exposed Pad. It is recommended that the exposed pad be soldered to the ground plane."
part B pins: 4 NC "No Connect. Leave this pin unconnected.", 10 NC "No Connect. Leave this pin unconnected.", 11 NC "No Connect. Leave this pin unconnected.", 18 NC "No Connect. Leave this pin unconnected.", 25 NC "No Connect. Leave this pin unconnected."

## ADP5034AREZ-R7
designator U?
Dual 3 MHz, 1200 mA Buck Regulator with Two 300 mA LDOs, 2.3 to 5.5 V Vin, Adjustable Vout, Industrial, 28-pin SOP (RE-28-1), Reel; Manufacturer: Analog Devices; PartNumber: ADP5034AREZ-R7; Output Current (mA): 300; Number of Outputs: 4; Vin (max) (V): 5.5; Vin (min) (V): 2.3; DatasheetVersion: Rev. C; PackageVersion: 02-23-2012-A, 03/2012; PackageReference: RE-28-1; PackageDescription: 28-Pin Thin Shrink Small Outline Package, Body 9.7 x 4.4 mm, Pitch 0.65 mm; Supplier 1: Digi-Key; Supplier Part Number 1: ADP5034AREZ-R7-ND; Supplier 2: Newark; Supplier Part Number 2: 43W5491; Supplier 3: Mouser; Supplier Part Number 3: 584-ADP5034AREZ-R7; Packing: Reel; Mounting Technology: Surface Mount; ComponentLink1Description: Manufacturer URL; ComponentLink1URL: http://www.analog.com/en/index.html; ComponentLink2Description: Datasheet; ComponentLink2URL: http://www.analog.com/static/imported-files/data_sheets/ADP5034.pdf; ComponentLink3Description: Package Specification; ComponentLink3URL: http://www.analog.com/static/imported-files/data_sheets/AD8016.pdf; ComponentLink4Description: URL Link1; ComponentLink4URL: Product URL:http://www.analog.com/en/ADP5034/productSearch.html
footprint ADI-RE-28-1_N (SOP, 28-Leads, Body 9.7x4.4mm, Pitch 0.65mm, Thermal Pad 3x3.5mm, IPC Medium Density)
footprint ADI-RE-28-1_L (SOP, 28-Leads, Body 9.7x4.4mm, Pitch 0.65mm, Thermal Pad 3x3.5mm, IPC High Density)
footprint ADI-RE-28-1_M (SOP, 28-Leads, Body 9.7x4.4mm, Pitch 0.65mm, Thermal Pad 3x3.5mm, IPC Low Density)
part A pins: 1 EN3 (in) "LDO1 Enable Pin. High level turns on this regulator, and low level turns it off.", 2 VIN4 (power) "LDO2 Input Supply (1.7 V to 5.5 V).", 3 VOUT4 (power) "LDO2 Output Voltage.", 5 FB4 (in) "LDO2 Feedback Input. For device models with a adjustable output voltage, connect this pin to the middle of the LDO2 resistor divider. For device models with a factory programmed output voltage, connect FB4 to the top of the (See Datasheet)", 6 EN4 (in) "LDO2 Enable Pin. High level turns on this regulator, and low level turns it off.", 7 VIN2 (power) "BUCK2 Input Supply (2.3 V to 5.5 V). Connect VIN2 to VIN1 and AVIN.", 8 SW2 (power) "BUCK2 Switching Node.", 9 PGND2 (power) "Dedicated Power Ground for BUCK2.", 12 EN2 (in) "BUCK2 Enable Pin. High level turns on this regulator, and low level turns it off.", 13 FB2 (in) "BUCK2 Feedback Input. For device models with an adjustable output voltage, connect this pin to the middle of the BUCK2 resistor divider. For device models with a fixed output voltage, leave this pin unconnected.", 14 VOUT2 "BUCK2 Output Voltage Sensing Input. Connect VOUT2 to the top of the capacitor on VOUT2.", 15 VOUT1 "BUCK1 Output Voltage Sensing Input. Connect VOUT1 to the top of the capacitor on VOUT1.", 16 FB1 (in) "BUCK1 Feedback Input. For device models with an adjustable output voltage, connect this pin to the middle of the BUCK1 resistor divider. For device models with a fixed output voltage, leave this pin unconnected.", 17 EN1 (in) "BUCK1 Enable Pin. High level turns on this regulator, and low level turns it off.", 19 MODE (in) "BUCK1/BUCK2 Operating Mode. MODE = high: forced PWM operation. MODE = low: auto PWM/PSM operation.", 20 PGND1 (power) "Dedicated Power Ground for BUCK1.", 21 SW1 (power) "BUCK1 Switching Node.", 22 VIN1 (power) "BUCK1 Input Supply (2.3 V to 5.5 V). Connect VIN1 to VIN2 and AVIN.", 23 AVIN (power) "Analog Input Supply (2.3 V to 5.5 V). Connect AVIN to VIN1 and VIN2.", 24 AGND (power) "Analog Ground.", 26 FB3 (in) "LDO1 Feedback Input. For device models with an adjustable output voltage, connect this pin to the middle of the LDO1 resistor divider. For device models with a factory programmed output voltage, connect FB3 to the top of the (See Datasheet)", 27 VOUT3 (power) "LDO1 Output Voltage.", 28 VIN3 (power) "LDO1 Input Supply (1.7 V to 5.5 V).", 29 EP (power) "Exposed Pad. It is recommended that the exposed pad be soldered to the ground plane."
part B pins: 4 NC "No Connect. Leave this pin unconnected.", 10 NC "No Connect. Leave this pin unconnected.", 11 NC "No Connect. Leave this pin unconnected.", 18 NC "No Connect. Leave this pin unconnected.", 25 NC "No Connect. Leave this pin unconnected."

## ADP5037ACPZ-1-R7
designator U?
Dual 3 MHz, 800 mA Buck Regulator with Two 300 mA LDOs, 2.3 to 5.5 V Vin, 1.2; 1.8; 2.8; 3.3 V Vout, Industrial, 24-pin QFN (CP-24-10), Reel; Manufacturer: Analog Devices; PartNumber: ADP5037ACPZ-1-R7; Output Current (mA): 300; Number of Outputs: 4; Vin (max) (V): 5.5; Vin (min) (V): 2.3; DatasheetVersion: Rev. B; PackageVersion: 0; PackageReference: CP-24-10; PackageDescription: 24-Pin Lead Frame Chip Scale Package, Body 4 x 4 mm, Pitch 0.5 mm; Supplier 1: Digi-Key; Supplier Part Number 1: ADP5037ACPZ-1-R7TR-ND; Supplier 2: Digi-Key; Supplier Part Number 2: ADP5037ACPZ-1-R7CT-ND; Supplier 3: Digi-Key; Supplier Part Number 3: ADP5037ACPZ-1-R7DKR-ND; Supplier 4: Mouser; Supplier Part Number 4: 584-ADP5037ACPZ-1-R7; Packing: Reel; Vout Preset (V): 1.2; 1.8; 2.8; 3.3; Mounting Technology: Surface Mount; Code_JEDEC: MO-220-WGGD-8; ComponentLink1Description: Manufacturer URL; ComponentLink1URL: http://www.analog.com/en/index.html; ComponentLink2Description: Datasheet; ComponentLink2URL: http://www.analog.com/static/imported-files/data_sheets/ADP5037.pdf; ComponentLink3Description: Package Specification; ComponentLink3URL: http://www.analog.com/static/imported-files/packages/PKG_PDF/LFCSP(CP)/CP_24_10.pdf; ComponentLink4Description: URL Link1; ComponentLink4URL: Product URL:http://www.analog.com/en/ADP5037/productSearch.html
footprint ADI-CP-24-10_N (QFN, 24-Leads, Body 4x4mm, Pitch 0.5mm, Thermal Pad 2.1x2.1mm, IPC Medium Density)
footprint ADI-CP-24-10_L (QFN, 24-Leads, Body 4x4mm, Pitch 0.5mm, Thermal Pad 2.1x2.1mm, IPC High Density)
footprint ADI-CP-24-10_M (QFN, 24-Leads, Body 4x4mm, Pitch 0.5mm, Thermal Pad 2.1x2.1mm, IPC Low Density)
pins: 1 FB4 (in) "LDO2 Feedback Input. For device models with adjustable output voltage, connect this pin to the middle of the LDO2 resistor divider. For device models with fixed output voltage, connect this pin to the top of the capacitor on (See Datasheet)", 2 EN4 (in) "LDO2 Enable Pin. High level turns on this regulator, and low level turns it off.", 3 VIN2 (power) "BUCK2 Input Supply (2.3 V to 5.5 V). Connect VIN2 to VIN1 and AVIN.", 4 SW2 (power) "BUCK2 Switching Node.", 5 PGND2 (power) "Dedicated Power Ground for BUCK2.", 6 NC "No Connect. Leave this pin unconnected.", 7 EN2 (in) "BUCK2 Enable Pin. High level turns on this regulator, and low level turns it off.", 8 FB2 (in) "BUCK2 Feedback Input. For device models with adjustable output voltage, connect this pin to the middle of the BUCK2 resistor divider. For device models with fixed output voltage, leave this pin unconnected.", 9 VOUT2 "BUCK2 Output Voltage Sensing Input. Connect VOUT2 to the top of the capacitor on VOUT2.", 10 VOUT1 "BUCK1 Output Voltage Sensing Input. Connect VOUT1 to the top of the capacitor on VOUT1.", 11 FB1 (in) "BUCK1 Feedback Input. For device models with adjustable output voltage, connect this pin to the middle of the BUCK1 resistor divider. For device models with fixed output voltage, leave this pin unconnected.", 12 EN1 (in) "BUCK1 Enable Pin. High level turns on this regulator, and low level turns it off.", 13 MODE (in) "BUCK1/BUCK2 Operating Mode. MODE = high: forced PWM operation. MODE = low: auto PWM/PSM operation.", 14 PGND1 (power) "Dedicated Power Ground for BUCK1.", 15 SW1 (power) "BUCK1 Switching Node.", 16 VIN1 (power) "BUCK1 Input Supply (2.3 V to 5.5 V). Connect VIN1 to VIN2 and AVIN.", 17 AVIN (power) "Analog Input Supply (2.3 V to 5.5 V). Connect AVIN to VIN1 and VIN2.", 18 AGND (power) "Analog Ground.", 19 FB3 (in) "LDO1 Feedback Input. For device models with adjustable output voltage, connect this pin to the middle of the LDO1 resistor divider. For device models with fixed output voltage, connect this pin to the top of the capacitor on (See Datasheet)", 20 VOUT3 (power) "LDO1 Output Voltage.", 21 VIN3 (power) "LDO1 Input Supply (1.7 V to 5.5 V).", 22 EN3 (in) "LDO1 Enable Pin. High level turns on this regulator, and low level turns it off.", 23 VIN4 (power) "LDO2 Input Supply (1.7 V to 5.5 V).", 24 VOUT4 (power) "LDO2 Output Voltage.", 25 EP (power) "Exposed Pad. It is recommended that the exposed pad be soldered to the ground plane."

## ADP5037ACPZ-2-R7
designator U?
Dual 3 MHz, 800 mA Buck Regulator with Two 300 mA LDOs, 2.3 to 5.5 V Vin, 1.2; 1.8; 2.8; 3.3 V Vout, Industrial, 24-pin QFN (CP-24-10), Reel; Manufacturer: Analog Devices; PartNumber: ADP5037ACPZ-2-R7; Output Current (mA): 300; Number of Outputs: 4; Vin (max) (V): 5.5; Vin (min) (V): 2.3; Vout Preset (V): 1.0; 1.8; 2.8; 3.3; DatasheetVersion: Rev. B; PackageVersion: 0; PackageReference: CP-24-10; PackageDescription: 24-Pin Lead Frame Chip Scale Package, Body 4 x 4 mm, Pitch 0.5 mm; Supplier 1: Digi-Key; Supplier Part Number 1: ADP5037ACPZ-2-R7-ND; Supplier 2: Newark; Supplier Part Number 2: 69W7673; Supplier 3: Mouser; Supplier Part Number 3: 584-ADP5037ACPZ-2-R7; Packing: Reel; Mounting Technology: Surface Mount; Code_JEDEC: MO-220-WGGD-8; ComponentLink1Description: Manufacturer URL; ComponentLink1URL: http://www.analog.com/en/index.html; ComponentLink2Description: Datasheet; ComponentLink2URL: http://www.analog.com/static/imported-files/data_sheets/ADP5037.pdf; ComponentLink3Description: Package Specification; ComponentLink3URL: http://www.analog.com/static/imported-files/packages/PKG_PDF/LFCSP(CP)/CP_24_10.pdf; ComponentLink4Description: URL Link1; ComponentLink4URL: Product URL:http://www.analog.com/en/ADP5037/productSearch.html
footprint ADI-CP-24-10_N (QFN, 24-Leads, Body 4x4mm, Pitch 0.5mm, Thermal Pad 2.1x2.1mm, IPC Medium Density)
footprint ADI-CP-24-10_L (QFN, 24-Leads, Body 4x4mm, Pitch 0.5mm, Thermal Pad 2.1x2.1mm, IPC High Density)
footprint ADI-CP-24-10_M (QFN, 24-Leads, Body 4x4mm, Pitch 0.5mm, Thermal Pad 2.1x2.1mm, IPC Low Density)
pins: 1 FB4 (in) "LDO2 Feedback Input. For device models with adjustable output voltage, connect this pin to the middle of the LDO2 resistor divider. For device models with fixed output voltage, connect this pin to the top of the capacitor on (See Datasheet)", 2 EN4 (in) "LDO2 Enable Pin. High level turns on this regulator, and low level turns it off.", 3 VIN2 (power) "BUCK2 Input Supply (2.3 V to 5.5 V). Connect VIN2 to VIN1 and AVIN.", 4 SW2 (power) "BUCK2 Switching Node.", 5 PGND2 (power) "Dedicated Power Ground for BUCK2.", 6 NC "No Connect. Leave this pin unconnected.", 7 EN2 (in) "BUCK2 Enable Pin. High level turns on this regulator, and low level turns it off.", 8 FB2 (in) "BUCK2 Feedback Input. For device models with adjustable output voltage, connect this pin to the middle of the BUCK2 resistor divider. For device models with fixed output voltage, leave this pin unconnected.", 9 VOUT2 "BUCK2 Output Voltage Sensing Input. Connect VOUT2 to the top of the capacitor on VOUT2.", 10 VOUT1 "BUCK1 Output Voltage Sensing Input. Connect VOUT1 to the top of the capacitor on VOUT1.", 11 FB1 (in) "BUCK1 Feedback Input. For device models with adjustable output voltage, connect this pin to the middle of the BUCK1 resistor divider. For device models with fixed output voltage, leave this pin unconnected.", 12 EN1 (in) "BUCK1 Enable Pin. High level turns on this regulator, and low level turns it off.", 13 MODE (in) "BUCK1/BUCK2 Operating Mode. MODE = high: forced PWM operation. MODE = low: auto PWM/PSM operation.", 14 PGND1 (power) "Dedicated Power Ground for BUCK1.", 15 SW1 (power) "BUCK1 Switching Node.", 16 VIN1 (power) "BUCK1 Input Supply (2.3 V to 5.5 V). Connect VIN1 to VIN2 and AVIN.", 17 AVIN (power) "Analog Input Supply (2.3 V to 5.5 V). Connect AVIN to VIN1 and VIN2.", 18 AGND (power) "Analog Ground.", 19 FB3 (in) "LDO1 Feedback Input. For device models with adjustable output voltage, connect this pin to the middle of the LDO1 resistor divider. For device models with fixed output voltage, connect this pin to the top of the capacitor on (See Datasheet)", 20 VOUT3 (power) "LDO1 Output Voltage.", 21 VIN3 (power) "LDO1 Input Supply (1.7 V to 5.5 V).", 22 EN3 (in) "LDO1 Enable Pin. High level turns on this regulator, and low level turns it off.", 23 VIN4 (power) "LDO2 Input Supply (1.7 V to 5.5 V).", 24 VOUT4 (power) "LDO2 Output Voltage.", 25 EP (power) "Exposed Pad. It is recommended that the exposed pad be soldered to the ground plane."

## ADP5037ACPZ-R7
designator U?
Dual 3 MHz, 800 mA Buck Regulator with Two 300 mA LDOs, 2.3 to 5.5 V Vin, Adjustable Vout, Industrial, 24-pin QFN (CP-24-10), Reel; Manufacturer: Analog Devices; PartNumber: ADP5037ACPZ-R7; Output Current (mA): 300; Number of Outputs: 4; Vin (max) (V): 5.5; Vin (min) (V): 2.3; DatasheetVersion: Rev. B; PackageVersion: 0; PackageReference: CP-24-10; PackageDescription: 24-Pin Lead Frame Chip Scale Package, Body 4 x 4 mm, Pitch 0.5 mm; Supplier 1: Digi-Key; Supplier Part Number 1: ADP5037ACPZ-R7TR-ND; Supplier 2: Digi-Key; Supplier Part Number 2: ADP5037ACPZ-R7CT-ND; Supplier 3: Digi-Key; Supplier Part Number 3: ADP5037ACPZ-R7DKR-ND; Supplier 4: Farnell; Supplier Part Number 4: 2061738; Supplier 5: Newark; Supplier Part Number 5: 65T6082; Supplier 6: Newark; Supplier Part Number 6: 63T8589; Supplier 7: Newark; Supplier Part Number 7: 65T4793; Supplier 8: Mouser; Supplier Part Number 8: 584-ADP5037ACPZ-R7; Packing: Reel; Mounting Technology: Surface Mount; Code_JEDEC: MO-220-WGGD-8; ComponentLink1Description: Manufacturer URL; ComponentLink1URL: http://www.analog.com/en/index.html; ComponentLink2Description: Datasheet; ComponentLink2URL: http://www.analog.com/static/imported-files/data_sheets/ADP5037.pdf; ComponentLink3Description: Package Specification; ComponentLink3URL: http://www.analog.com/static/imported-files/packages/PKG_PDF/LFCSP(CP)/CP_24_10.pdf; ComponentLink4Description: URL Link1; ComponentLink4URL: Product URL:http://www.analog.com/en/ADP5037/productSearch.html
footprint ADI-CP-24-10_N (QFN, 24-Leads, Body 4x4mm, Pitch 0.5mm, Thermal Pad 2.1x2.1mm, IPC Medium Density)
footprint ADI-CP-24-10_L (QFN, 24-Leads, Body 4x4mm, Pitch 0.5mm, Thermal Pad 2.1x2.1mm, IPC High Density)
footprint ADI-CP-24-10_M (QFN, 24-Leads, Body 4x4mm, Pitch 0.5mm, Thermal Pad 2.1x2.1mm, IPC Low Density)
pins: 1 FB4 (in) "LDO2 Feedback Input. For device models with adjustable output voltage, connect this pin to the middle of the LDO2 resistor divider. For device models with fixed output voltage, connect this pin to the top of the capacitor on (See Datasheet)", 2 EN4 (in) "LDO2 Enable Pin. High level turns on this regulator, and low level turns it off.", 3 VIN2 (power) "BUCK2 Input Supply (2.3 V to 5.5 V). Connect VIN2 to VIN1 and AVIN.", 4 SW2 (power) "BUCK2 Switching Node.", 5 PGND2 (power) "Dedicated Power Ground for BUCK2.", 6 NC "No Connect. Leave this pin unconnected.", 7 EN2 (in) "BUCK2 Enable Pin. High level turns on this regulator, and low level turns it off.", 8 FB2 (in) "BUCK2 Feedback Input. For device models with adjustable output voltage, connect this pin to the middle of the BUCK2 resistor divider. For device models with fixed output voltage, leave this pin unconnected.", 9 VOUT2 "BUCK2 Output Voltage Sensing Input. Connect VOUT2 to the top of the capacitor on VOUT2.", 10 VOUT1 "BUCK1 Output Voltage Sensing Input. Connect VOUT1 to the top of the capacitor on VOUT1.", 11 FB1 (in) "BUCK1 Feedback Input. For device models with adjustable output voltage, connect this pin to the middle of the BUCK1 resistor divider. For device models with fixed output voltage, leave this pin unconnected.", 12 EN1 (in) "BUCK1 Enable Pin. High level turns on this regulator, and low level turns it off.", 13 MODE (in) "BUCK1/BUCK2 Operating Mode. MODE = high: forced PWM operation. MODE = low: auto PWM/PSM operation.", 14 PGND1 (power) "Dedicated Power Ground for BUCK1.", 15 SW1 (power) "BUCK1 Switching Node.", 16 VIN1 (power) "BUCK1 Input Supply (2.3 V to 5.5 V). Connect VIN1 to VIN2 and AVIN.", 17 AVIN (power) "Analog Input Supply (2.3 V to 5.5 V). Connect AVIN to VIN1 and VIN2.", 18 AGND (power) "Analog Ground.", 19 FB3 (in) "LDO1 Feedback Input. For device models with adjustable output voltage, connect this pin to the middle of the LDO1 resistor divider. For device models with fixed output voltage, connect this pin to the top of the capacitor on (See Datasheet)", 20 VOUT3 (power) "LDO1 Output Voltage.", 21 VIN3 (power) "LDO1 Input Supply (1.7 V to 5.5 V).", 22 EN3 (in) "LDO1 Enable Pin. High level turns on this regulator, and low level turns it off.", 23 VIN4 (power) "LDO2 Input Supply (1.7 V to 5.5 V).", 24 VOUT4 (power) "LDO2 Output Voltage.", 25 EP (power) "Exposed Pad. It is recommended that the exposed pad be soldered to the ground plane."

## ADP5040ACPZ-1-R7
designator U?
Micro PMU with 1.2 A Buck Regulator with Two 300 mA LDOs, 2.3 to 5.5 V Vin, Industrial, 20-pin QFN (CP-20-10), Reel; Manufacturer: Analog Devices; PartNumber: ADP5040ACPZ-1-R7; Interface: GPIO; Output Current (mA): 300; Number of Outputs: 3; Vin (max) (V): 5.5; Vin (min) (V): 2.3; DatasheetVersion: Rev. 0; PackageVersion: 061609-B, 06/2009; PackageReference: CP-20-10; PackageDescription: 20-Pin Lead Frame Chip Scale Package, Body 4 x 4 mm, Pitch 0.5 mm; Supplier 1: Digi-Key; Supplier Part Number 1: ADP5040ACPZ-1-R7TR-ND; Supplier 2: Digi-Key; Supplier Part Number 2: ADP5040ACPZ-1-R7CT-ND; Supplier 3: Digi-Key; Supplier Part Number 3: ADP5040ACPZ-1-R7DKR-ND; Supplier 4: Farnell; Supplier Part Number 4: 2081049; Supplier 5: Newark; Supplier Part Number 5: 82T3658; Supplier 6: Newark; Supplier Part Number 6: 92T3196; Supplier 7: Mouser; Supplier Part Number 7: 584-ADP5040ACPZ-1-R7; Packing: Reel; Mounting Technology: Surface Mount; Code_JEDEC: MO-220-WGGD; ComponentLink1Description: Manufacturer URL; ComponentLink1URL: http://www.analog.com/en/index.html; ComponentLink2Description: Datasheet; ComponentLink2URL: http://www.analog.com/static/imported-files/data_sheets/ADP5040.pdf; ComponentLink3Description: Package Specification; ComponentLink3URL: http:/www.analog.com/static/imported-files/packages/PKG_PDF/LFCSP(CP)/CP_20_10.pdf; ComponentLink4Description: URL Link1; ComponentLink4URL: Product URL:http://www.analog.com/en/ADP5040/productSearch.html
footprint ADI-CP-20-10_N (QFN, 20-Leads, Body 4x4mm, Pitch 0.5mm, Thermal Pad 2.5x2.5mm, IPC Medium Density)
footprint ADI-CP-20-10_L (QFN, 20-Leads, Body 4x4mm, Pitch 0.5mm, Thermal Pad 2.5x2.5mm, IPC High Density)
footprint ADI-CP-20-10_M (QFN, 20-Leads, Body 4x4mm, Pitch 0.5mm, Thermal Pad 2.5x2.5mm, IPC Low Density)
pins: 1 FB3 (in) "LDO2 Feedback Input", 2 VOUT3 (power) "LDO2 Output Voltage.", 3 VIN3 (power) "LDO2 Input Supply (1.7 V to 5.5 V).", 4 EN3 (in) "Enable LDO2. EN3 = high: turn on LDO2; EN3 = low: turn off LDO2", 5 NC "Not Connected.", 6 AVIN (power) "Housekeeping Input Supply (2.3 V to 5.5 V).", 7 VIN1 (power) "Buck Input Supply (2.3 V to 5.5 V).", 8 SW (power) "Buck Switching Node.", 9 PGND (power) "Dedicated Power Ground for Buck Regulator.", 10 EN1 (in) "Enable Buck. EN1 = high: turn on buck; EN1 = low: turn off buck.", 11 VOUT1 "Buck Output Sensing Node", 12 FB1 (in) "Buck Feedback Input.", 13 VIN2 (power) "LDO1 Input Supply (1.7 V to 5.5 V).", 14 VOUT2 (power) "LDO1 Output Voltage", 15 FB2 (in) "LDO1 Feedback Input", 16 EN2 (in) "Enable LDO1. EN2 = high: turn on LDO1; EN2 = low: turn off LDO1.", 17 MODE (in) "Buck Mode. Mode = high: buck regulator operates in fixed PWM mode; mode = low: buck regulator operates in power save mode (PSM) at light load and in constant PWM at higher load.", 18 NC "Not Connected", 19 NC "Not Connected", 20 NC "Not Connected", 21 EP (power) "Exposed Pad. ( AGND = Analog Ground). The exposed pad must be connected to the system ground plane."